# Altium footprint library FKP2D011001A00JSSD.PcbLib: 1 footprints
Each footprint in its own frame and in the unit in brackets; x right, y up, seen from the top. Pads: shape width x height; smd on the part's side, far side on the other; paste and mask are expansions set on the pad; w line width, h text height; cw(c..) or ccw(c..) is an arc to the next point about the centre after c.
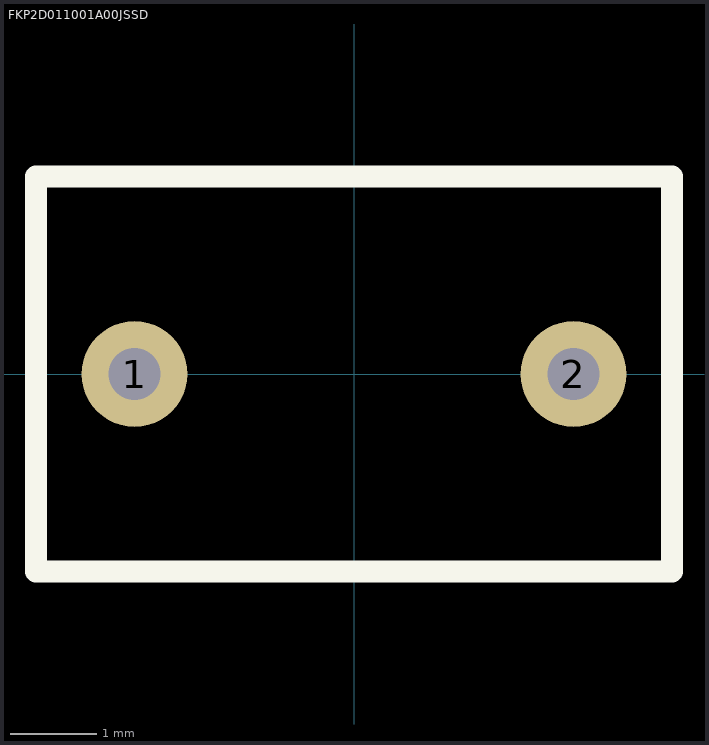
[diagram p0: the footprint, top view; thin cyan lines are the x and y axes]

## FKP2D011001A00JSSD [mm] "FKP2D011001A00JSSD"
pads (2):
  round 1.224 hole 0.6: 1(-2.54,0) 2(2.54,0)
Top Overlay:
  lines w0.254: -3.683,-2.286 3.683,-2.286 3.683,2.286 -3.683,2.286 -3.683,-2.286
3D body "FKP2D011001D00ESSD.STEP": height 6, standoff -6, extent -3.6,-2.25 3.6,2.25